# Altium footprint library CAP_ELEC_5x5.7.PcbLib: 1 footprints
Each footprint in its own frame and in the unit in brackets; x right, y up, seen from the top. Pads: shape width x height; smd on the part's side, far side on the other; paste and mask are expansions set on the pad; w line width, h text height; cw(c..) or ccw(c..) is an arc to the next point about the centre after c.
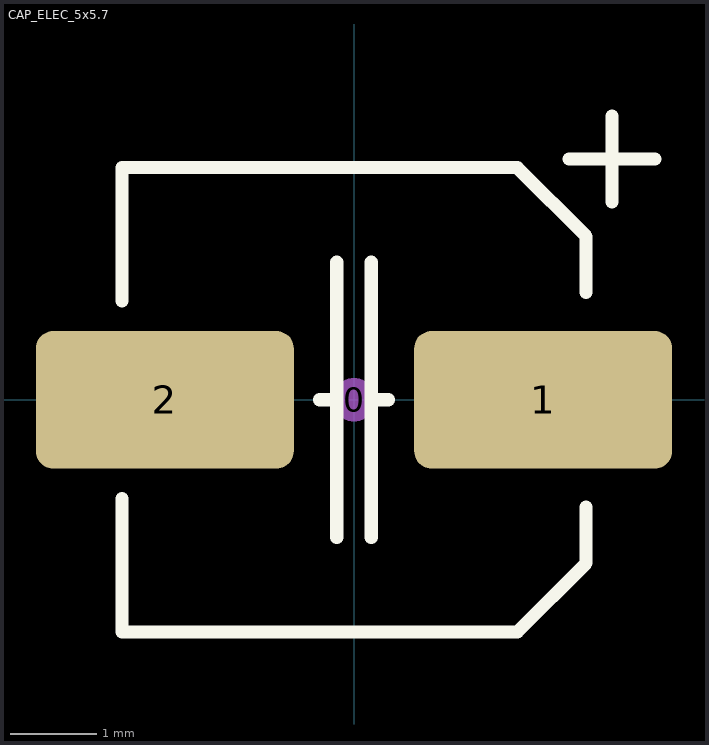
[diagram p0: the footprint, top view; thin cyan lines are the x and y axes]

## CAP_ELEC_5x5.7 [mm] "Capacitor, polarized, aluminum can; 5x5.7mm DxH"
height 5.7
pads (3):
  round 0.508 on Mech15: 0(0,0)
  rrect25% 3x1.6 smd: 1(2.2,0) 2(-2.2,0)
Top Overlay:
  lines w0.152: -2.7,-1.15 -2.7,-2.7 1.9,-2.7 2.7,-1.9 2.7,-1.25 ; -2.7,1.15 -2.7,2.7 1.9,2.7 2.7,1.9 2.7,1.25 ; -0.4,0 -0.2,0 ; -0.2,-1.6 -0.2,1.6 ; 0.2,-1.6 0.2,1.6 ; 0.2,0 0.4,0 ; 2.5,2.8 3,2.8 3.5,2.8 ; 3,2.3 3,3.3
3D body "Cap, elec, 5x5.7_.STEP": height 5.7, standoff 0, extent -2.65,-2.65 2.65,2.65